# Altium footprint library WE-FLYLT.PcbLib: 6 footprints
Each footprint in its own frame and in the unit in brackets; x right, y up, seen from the top. Pads: shape width x height; smd on the part's side, far side on the other; paste and mask are expansions set on the pad; w line width, h text height; cw(c..) or ccw(c..) is an arc to the next point about the centre after c.
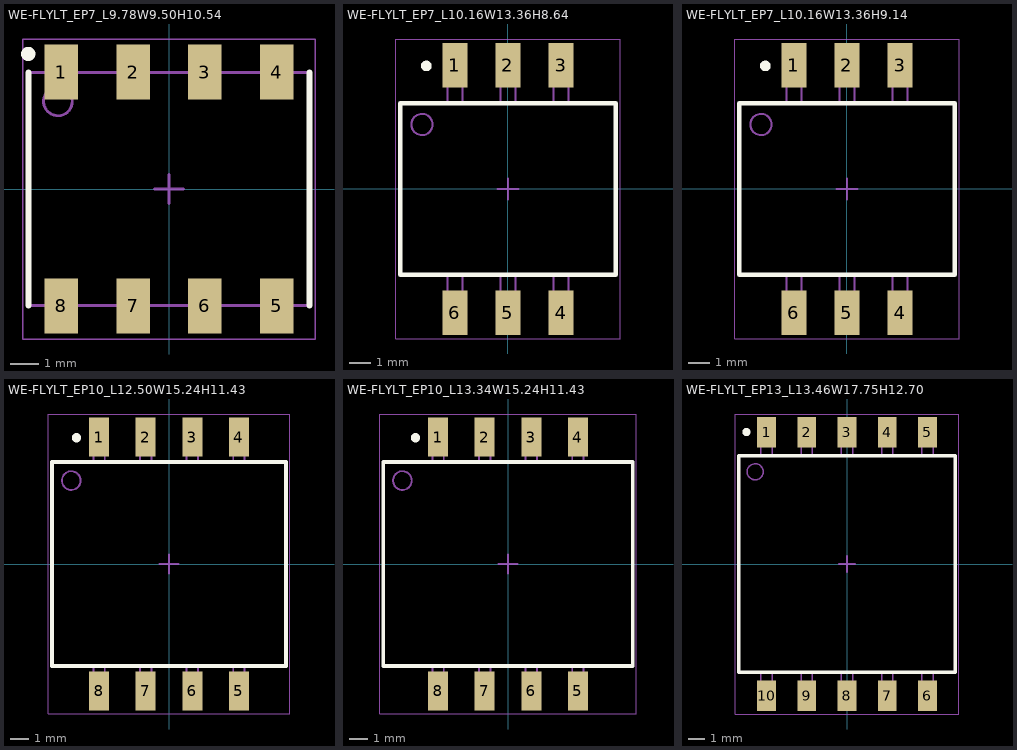
[diagram p0: the footprints below, top view; thin cyan lines are the x and y axes]

## WE-FLYLT_EP7_L9.78W9.50H10.54 [mm] "Flyback Transformers for Linear Technology, body 9.78 x 9.50mm"
height 10.54
pads (8):
  rect 1.17x1.91 smd: 1(-3.75,4.065) 2(-1.25,4.065) 3(1.25,4.065) 4(3.75,4.065) 5(3.75,-4.065) 6(1.25,-4.065) 7(-1.25,-4.065) 8(-3.75,-4.065)
Top Overlay:
  circle w0.25: c-4.9,4.7 r0.125
  lines w0.2: -4.89,-4.05 -4.89,4.05 ; 4.89,-4.05 4.89,4.05
Top Assembly:
  circle w0.1: c-3.865,3.05 r0.5
  lines w0.1: -4.89,-4.05 -4.89,4.05 4.89,4.05 4.89,-4.05 -4.89,-4.05
Top Designator:
  text ".Designator" at -3.647,-0.357 h1
Top Courtyard:
  lines w0.05: -5.09,-5.22 5.09,-5.22 5.09,5.22 -5.09,5.22 -5.09,-5.22
Top Component Center:
  lines w0.1: -0.5,0 0.5,0 ; 0,-0.5 0,0.5
3D body "070-4436 (rev1).STEP": height 10.09, standoff 0, extent -4.89,-4.4 4.89,4.4

## WE-FLYLT_EP7_L10.16W13.36H8.64 [mm] "Flyback Transformers for Linear Technology, body 10.16 x 13.36mm"
height 8.64
pads (6):
  rect 1.17x2.08 smd: 1(-2.5,5.83) 2(0,5.83) 3(2.5,5.83) 4(2.5,-5.83) 5(0,-5.83) 6(-2.5,-5.83)
Top Overlay:
  circle w0.25: c-3.85,5.8 r0.125
  lines w0.2: -5.08,-4.04 5.08,-4.04 5.08,4.04 -5.08,4.04 -5.08,-4.04
Top Assembly:
  circle w0.1: c-4.055,3.04 r0.5
  lines w0.1: -2.85,-4.04 -2.85,-6.69 -2.15,-6.69 -2.15,-4.04 ; -2.85,4.04 -2.85,6.69 -2.15,6.69 -2.15,4.04 ; -0.35,-4.04 -0.35,-6.69 0.35,-6.69 0.35,-4.04 ; -0.35,4.04 -0.35,6.69 0.35,6.69 0.35,4.04 ; 2.15,-4.04 2.15,-6.69 2.85,-6.69 2.85,-4.04 ; 2.15,4.04 2.15,6.69 2.85,6.69 2.85,4.04 ; -5.08,-4.04 -5.08,4.04 5.08,4.04 5.08,-4.04 -5.08,-4.04
Top Designator:
  text ".Designator" at -3.647,-0.357 h1
Top Courtyard:
  lines w0.05: -5.28,-7.07 5.28,-7.07 5.28,7.07 -5.28,7.07 -5.28,-7.07
Top Component Center:
  lines w0.1: -0.5,0 0.5,0 ; 0,-0.5 0,0.5
3D body "070-5801 (rev1).STEP": height 8.59, standoff 0, extent -4.89,-6.35 4.89,6.35

## WE-FLYLT_EP7_L10.16W13.36H9.14 [mm] "Flyback Transformers for Linear Technology, body 10.16 x 13.36mm"
height 9.14
pads (6):
  rect 1.17x2.08 smd: 1(-2.5,5.83) 2(0,5.83) 3(2.5,5.83) 4(2.5,-5.83) 5(0,-5.83) 6(-2.5,-5.83)
Top Overlay:
  circle w0.25: c-3.85,5.8 r0.125
  lines w0.2: -5.08,-4.04 -5.08,4.04 5.08,4.04 5.08,-4.04 -5.08,-4.04
Top Assembly:
  circle w0.1: c-4.055,3.04 r0.5
  lines w0.1: -2.85,-4.04 -2.85,-6.69 -2.15,-6.69 -2.15,-4.04 ; -2.85,4.04 -2.85,6.69 -2.15,6.69 -2.15,4.04 ; -0.35,-4.04 -0.35,-6.69 0.35,-6.69 0.35,-4.04 ; -0.35,4.04 -0.35,6.69 0.35,6.69 0.35,4.04 ; 2.15,-4.04 2.15,-6.69 2.85,-6.69 2.85,-4.04 ; 2.15,4.04 2.15,6.69 2.85,6.69 2.85,4.04 ; -5.08,-4.04 5.08,-4.04 5.08,4.04 -5.08,4.04 -5.08,-4.04
Top Designator:
  text ".Designator" at -3.647,-0.357 h1
Top Courtyard:
  lines w0.05: -5.28,-7.07 -5.28,7.07 5.28,7.07 5.28,-7.07 -5.28,-7.07
Top Component Center:
  lines w0.1: -0.5,0 0.5,0 ; 0,-0.5 0,0.5
3D body "070-5801 (rev1).STEP": height 8.59, standoff 0, extent -4.89,-6.35 4.89,6.35

## WE-FLYLT_EP10_L12.50W15.24H11.43 [mm] "Flyback Transformers for Linear Technology, body 12.50 x 15.24mm"
height 11.43
pads (8):
  rect 1.07x2.08 smd: 1(-3.735,6.78) 2(-1.245,6.78) 3(1.245,6.78) 4(3.735,6.78) 5(3.735,-6.78) 6(1.245,-6.78) 7(-1.245,-6.78) 8(-3.735,-6.78)
Top Overlay:
  circle w0.25: c-4.95,6.75 r0.125
  lines w0.2: -6.25,-5.46 6.25,-5.46 6.25,5.46 -6.25,5.46 -6.25,-5.46
Top Assembly:
  circle w0.1: c-5.225,4.46 r0.5
  lines w0.1: -4.035,-5.46 -4.035,-7.62 -3.435,-7.62 -3.435,-5.46 ; -4.035,5.46 -4.035,7.62 -3.435,7.62 -3.435,5.46 ; -1.545,-5.46 -1.545,-7.62 -0.945,-7.62 -0.945,-5.46 ; -1.545,5.46 -1.545,7.62 -0.945,7.62 -0.945,5.46 ; 0.945,-5.46 0.945,-7.62 1.545,-7.62 1.545,-5.46 ; 0.945,5.46 0.945,7.62 1.545,7.62 1.545,5.46 ; 3.435,-5.46 3.435,-7.62 4.035,-7.62 4.035,-5.46 ; 3.435,5.46 3.435,7.62 4.035,7.62 4.035,5.46 ; -6.25,-5.46 -6.25,5.46 6.25,5.46 6.25,-5.46 -6.25,-5.46
Top Designator:
  text ".Designator" at -3.647,-0.357 h1
Top Courtyard:
  lines w0.05: -6.45,-8.02 6.45,-8.02 6.45,8.02 -6.45,8.02 -6.45,-8.02
Top Component Center:
  lines w0.1: -0.5,0 0.5,0 ; 0,-0.5 0,0.5
3D body "070-6052 (rev1).STEP": height 10.78, standoff 0, extent -6.065,-7.31 6.065,7.31

## WE-FLYLT_EP10_L13.34W15.24H11.43 [mm] "Flyback Transformers for Linear Technology, body 13.34 x 15.24mm"
height 11.43
pads (8):
  rect 1.07x2.08 smd: 1(-3.735,6.78) 2(-1.245,6.78) 3(1.245,6.78) 4(3.735,6.78) 5(3.735,-6.78) 6(1.245,-6.78) 7(-1.245,-6.78) 8(-3.735,-6.78)
Top Overlay:
  circle w0.25: c-4.95,6.75 r0.125
  lines w0.2: -6.67,-5.46 6.67,-5.46 6.67,5.46 -6.67,5.46 -6.67,-5.46
Top Assembly:
  circle w0.1: c-5.645,4.46 r0.5
  lines w0.1: -4.035,-5.46 -4.035,-7.62 -3.435,-7.62 -3.435,-5.46 ; -4.035,5.46 -4.035,7.62 -3.435,7.62 -3.435,5.46 ; -1.545,-5.46 -1.545,-7.62 -0.945,-7.62 -0.945,-5.46 ; -1.545,5.46 -1.545,7.62 -0.945,7.62 -0.945,5.46 ; 0.945,-5.46 0.945,-7.62 1.545,-7.62 1.545,-5.46 ; 0.945,5.46 0.945,7.62 1.545,7.62 1.545,5.46 ; 3.435,-5.46 3.435,-7.62 4.035,-7.62 4.035,-5.46 ; 3.435,5.46 3.435,7.62 4.035,7.62 4.035,5.46 ; -6.67,-5.46 -6.67,5.46 6.67,5.46 6.67,-5.46 -6.67,-5.46
Top Designator:
  text ".Designator" at -3.647,-0.357 h1
Top Courtyard:
  lines w0.05: -6.87,-8.02 6.87,-8.02 6.87,8.02 -6.87,8.02 -6.87,-8.02
Top Component Center:
  lines w0.1: -0.5,0 0.5,0 ; 0,-0.5 0,0.5
3D body "070-6052 (rev1).STEP": height 10.78, standoff 0, extent -6.065,-7.31 6.065,7.31

## WE-FLYLT_EP13_L13.46W17.75H12.70 [mm] "Flyback Transformers for Linear Technology, body 13.46 x 17.75mm"
height 12.7
pads (10):
  rect 1.17x1.88 smd: 1(-5,8.18) 2(-2.5,8.18) 3(0,8.18) 4(2.5,8.18) 5(5,8.18) 6(5,-8.18) 7(2.5,-8.18) 8(0,-8.18) 9(-2.5,-8.18) 10(-5,-8.18)
Top Overlay:
  circle w0.25: c-6.25,8.2 r0.125
  lines w0.2: -6.73,-6.73 6.73,-6.73 6.73,6.73 -6.73,6.73 -6.73,-6.73
Top Assembly:
  circle w0.1: c-5.705,5.73 r0.5
  lines w0.1: -5.35,-6.73 -5.35,-8.875 -4.65,-8.875 -4.65,-6.73 ; -5.35,6.73 -5.35,8.875 -4.65,8.875 -4.65,6.73 ; -2.85,-6.73 -2.85,-8.875 -2.15,-8.875 -2.15,-6.73 ; -2.85,6.73 -2.85,8.875 -2.15,8.875 -2.15,6.73 ; -0.35,-6.73 -0.35,-8.875 0.35,-8.875 0.35,-6.73 ; -0.35,6.73 -0.35,8.875 0.35,8.875 0.35,6.73 ; 2.15,-6.73 2.15,-8.875 2.85,-8.875 2.85,-6.73 ; 2.15,6.73 2.15,8.875 2.85,8.875 2.85,6.73 ; 4.65,-6.73 4.65,-8.875 5.35,-8.875 5.35,-6.73 ; 4.65,6.73 4.65,8.875 5.35,8.875 5.35,6.73 ; -6.73,-6.73 -6.73,6.73 6.73,6.73 6.73,-6.73 -6.73,-6.73
Top Designator:
  text ".Designator" at -3.647,-0.357 h1
Top Courtyard:
  lines w0.05: -6.93,-9.32 6.93,-9.32 6.93,9.32 -6.93,9.32 -6.93,-9.32
Top Component Center:
  lines w0.1: -0.5,0 0.5,0 ; 0,-0.5 0,0.5
3D body "070-5465 (rev1).STEP": height 11.96, standoff 0, extent -6.55,-8.58 6.55,8.58